# Altium schematic symbol library Resistance_Schlib.SchLib: 72 symbols
Pins are listed as number, name and electrical type; pins without a type are passive.

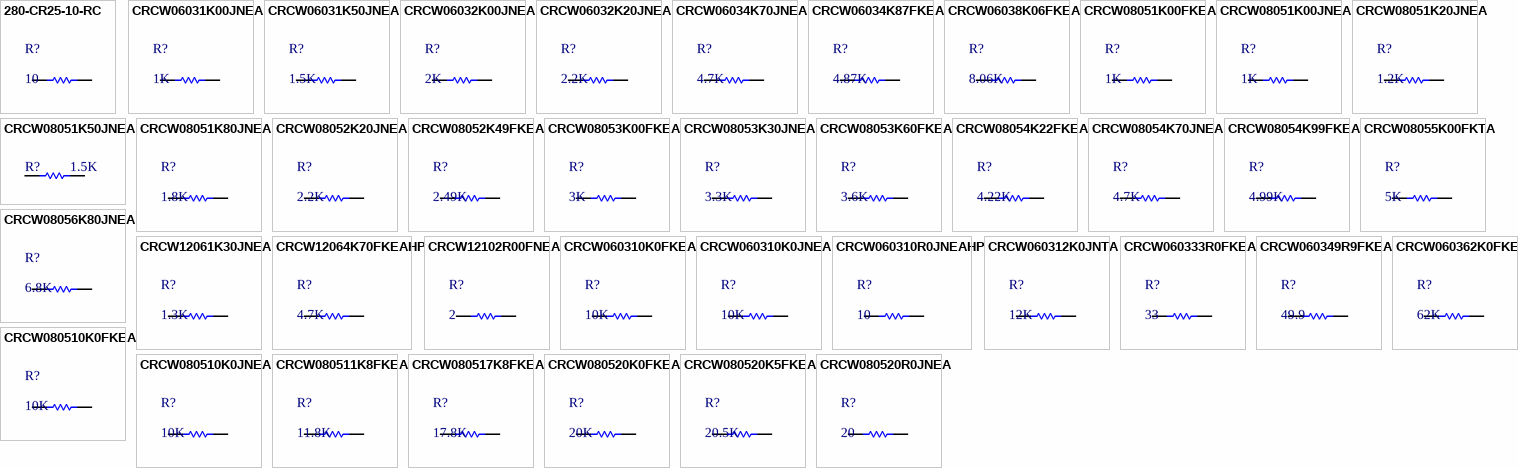
[diagram p0: symbols 280-CR25-10-RC to CRCW080520R0JNEA]

## 280-CR25-10-RC
designator R?, comment 10
線繞電阻器 - 透孔 10ohms 5% Tol 25W; 單價: 38.89; 製造商: Xicon; 代理商: mouser; 參考網站: http://www.mouser.tw/ProductDetail/Xicon/280-CR25-10-RC/?qs=sGAEpiMZZMtbXrIkmrvidNqDYkzv63xDPoVcgzNUNS0%3d; 資料手冊: http://www.mouser.com/ds/2/351/xicon_01272016_XC-600041-844471.pdf
footprint CR-25
pins: 1, 2

## CRCW06031K00JNEA
designator R?, comment 1K
厚膜電阻器 - 1K ohms 5% SMD 0603 1/10watt; 製造商: Vishay / Dale; 單價: 3.57; 代理商: mouser; 資料手冊: http://www.mouser.com/ds/2/427/dcrcwe3-109170.pdf; 參考網站: http://www.mouser.tw/ProductDetail/Vishay-Dale/CRCW06031K00JNEA/?qs=sGAEpiMZZMu61qfTUdNhG6VIbcZKTXAs3oFUk1Rmj2E%3d
footprint SMD 0603 Res (SMD 0603 電阻 1/10 (0.10))
pins: 1, 2

## CRCW06031K50JNEA
designator R?, comment 1.5K
厚膜電阻器 - 1.5K ohms 5% SMD 0603 1/10watt; 製造商: Vishay / Dale; 單價: 3.57; 代理商: mouser; 資料手冊: http://www.mouser.com/ds/2/427/dcrcwe3-109170.pdf; 參考網站: http://www.mouser.tw/ProductDetail/Vishay-Dale/CRCW06031K50JNEA/?qs=sGAEpiMZZMu61qfTUdNhG82Z6Ry1C7AqqcTNlUx7YuQ%3d
footprint SMD 0603 Res (SMD 0603 電阻 1/10 (0.10))
pins: 1, 2

## CRCW06032K00JNEA
designator R?, comment 2K
厚膜電阻器 - 2K ohms 5% SMD 0603 1/10watt; 製造商: Vishay / Dale; 單價: 3.57; 代理商: mouser; 資料手冊: http://www.mouser.com/ds/2/427/dcrcwe3-109170.pdf; 參考網站: http://www.mouser.tw/ProductDetail/Vishay-Dale/CRCW06032K00JNEA/?qs=sGAEpiMZZMu61qfTUdNhG2DpbjADlD3Gh%252beOru%252b7bZk%3d
footprint SMD 0603 Res (SMD 0603 電阻 1/10 (0.10))
pins: 1, 2

## CRCW06032K20JNEA
designator R?, comment 2.2K
厚膜電阻器 - 2.2K ohms 5% SMD 0603 1/10watt; 製造商: Vishay / Dale; 單價: 3.57; 代理商: mouser; 資料手冊: http://www.mouser.com/ds/2/427/dcrcwe3-109170.pdf; 參考網站: http://www.mouser.tw/ProductDetail/Vishay-Dale/CRCW06032K20JNEA/?qs=sGAEpiMZZMu61qfTUdNhG2DpbjADlD3Gdx0VB9GRU2U%3d
footprint SMD 0603 Res (SMD 0603 電阻 1/10 (0.10))
pins: 1, 2

## CRCW06034K70JNEA
designator R?, comment 4.7K
厚膜電阻器 - 4.7K ohms 5% SMD 0603 1/10watt; 製造商: Vishay / Dale; 單價: 3.57; 代理商: mouser; 資料手冊: http://www.mouser.com/ds/2/427/dcrcwe3-109170.pdf; 參考網站: http://www.mouser.tw/ProductDetail/Vishay-Dale/CRCW06034K70JNEA/?qs=sGAEpiMZZMu61qfTUdNhG2DpbjADlD3GM809i7E4nus%3d
footprint SMD 0603 Res (SMD 0603 電阻 1/10 (0.10))
pins: 1, 2

## CRCW06034K87FKEA
designator R?, comment 4.87K
厚膜電阻器 - 4.87K ohms 1% SMD 0603 1/10watt; 製造商: Vishay / Dale; 單價: 3.57; 代理商: mouser; 資料手冊: http://www.mouser.com/ds/2/427/dcrcwe3-109170.pdf; 參考網站: http://www.mouser.tw/ProductDetail/Vishay-Dale/CRCW06034K87FKEA/?qs=sGAEpiMZZMu61qfTUdNhG7Gzy2l2IcrzyD3DRfvVWTM%3d
footprint SMD 0603 Res (SMD 0603 電阻 1/10 (0.10))
pins: 1, 2

## CRCW06038K06FKEA
designator R?, comment 8.06K
厚膜電阻器 - 8.06K ohms 1% SMD 0603 1/10watt; 製造商: Vishay / Dale; 單價: 3.57; 代理商: mouser; 資料手冊: http://www.mouser.com/ds/2/427/dcrcwe3-109170.pdf; 參考網站: http://www.mouser.tw/ProductDetail/Vishay-Dale/CRCW06038K06FKEA/?qs=sGAEpiMZZMu61qfTUdNhG3XwnH6YDjgjWKqIV835bLQ%3d
footprint SMD 0603 Res (SMD 0603 電阻 1/10 (0.10))
pins: 1, 2

## CRCW08051K00FKEA
designator R?, comment 1K
厚膜電阻器 - 1K ohms 1% SMD 0805 1/8watt; 製造商: Vishay / Dale; 單價: 3.57; 代理商: mouser; 資料手冊: http://www.mouser.com/ds/2/427/dcrcwe3-109170.pdf; 參考網站: http://www.mouser.tw/ProductDetail/Vishay-Dale/CRCW08051K00JNEA/?qs=sGAEpiMZZMu61qfTUdNhG2DpbjADlD3G6P2hlKfR5ZA%3d
footprint SMD 0805 Res (SMD 0805 電阻 1/8 (0.125))
pins: 1, 2

## CRCW08051K00JNEA
designator R?, comment 1K
厚膜電阻器 - 1K ohms 5% SMD 0805 1/8watt; 製造商: Vishay / Dale; 單價: 3.57; 代理商: mouser; 資料手冊: http://www.mouser.com/ds/2/427/dcrcwe3-109170.pdf; 參考網站: http://www.mouser.tw/ProductDetail/Vishay-Dale/CRCW08051K00JNEA/?qs=sGAEpiMZZMu61qfTUdNhG2DpbjADlD3G6P2hlKfR5ZA%3d
footprint SMD 0805 Res (SMD 0805 電阻 1/8 (0.125))
pins: 1, 2

## CRCW08051K20JNEA
designator R?, comment 1.2K
厚膜電阻器 - 1.2K ohms 5% SMD 0805 1/8watt; 製造商: Vishay / Dale; 代理商: mouser; 單價: 3.57; 資料手冊: http://www.mouser.com/ds/2/427/dcrcwe3-109170.pdf; 參考網站: http://www.mouser.tw/ProductDetail/Vishay-Dale/CRCW08051K20JNEA/?qs=sGAEpiMZZMu61qfTUdNhG2DpbjADlD3G%252bKQuY8nNS1c%3d
footprint SMD 0805 Res (SMD 0805 電阻 1/8 (0.125))
pins: 1, 2

## CRCW08051K50JNEA
designator R?, comment 1.5K
厚膜電阻器 - 1.5K ohms 5% SMD 0805 1/8watt; 製造商: Vishay / Dale; 代理商: mouser; 單價: 3.57; 資料手冊: http://www.mouser.com/ds/2/427/dcrcwe3-109170.pdf; 參考網站: http://www.mouser.tw/ProductDetail/Vishay-Dale/CRCW08051K50JNEA/?qs=sGAEpiMZZMu61qfTUdNhG2DpbjADlD3GtpSFAMbjf5w%3d
footprint SMD 0805 Res (SMD 0805 電阻 1/8 (0.125))
pins: 1, 2

## CRCW08051K80JNEA
designator R?, comment 1.8K
厚膜電阻器 - 1.8K ohms 5% SMD 0805 1/8watt; 製造商: Vishay / Dale; 代理商: mouser; 單價: 3.57; 資料手冊: http://www.mouser.com/ds/2/427/dcrcwe3-109170.pdf; 參考網站: http://www.mouser.tw/ProductDetail/Vishay-Dale/CRCW08051K80JNEA/?qs=sGAEpiMZZMu61qfTUdNhG2DpbjADlD3Gr9Lb78Ti9KM%3d
footprint SMD 0805 Res (SMD 0805 電阻 1/8 (0.125))
pins: 1, 2

## CRCW08052K20JNEA
designator R?, comment 2.2K
厚膜電阻器 - 2.2K ohms 5% SMD 0805 1/8watt; 製造商: Vishay / Dale; 單價: 3.57; 代理商: mouser; 資料手冊: http://www.mouser.com/ds/2/427/dcrcwe3-109170.pdf; 參考網站: http://www.mouser.tw/ProductDetail/Vishay-Dale/CRCW08052K20JNEA/?qs=sGAEpiMZZMu61qfTUdNhG2DpbjADlD3GcOlEQFiYNsM%3d
footprint SMD 0805 Res (SMD 0805 電阻 1/8 (0.125))
pins: 1, 2

## CRCW08052K49FKEA
designator R?, comment 2.49K
厚膜電阻器 - 2.49K ohms 1% SMD 0805 1/8watt; 製造商: Vishay / Dale; 單價: 3.57; 代理商: mouser; 資料手冊: http://www.mouser.com/ds/2/427/dcrcwe3-109170.pdf; 參考網站: http://www.mouser.tw/ProductDetail/Vishay-Dale/CRCW08052K20JNEA/?qs=sGAEpiMZZMu61qfTUdNhG2DpbjADlD3GcOlEQFiYNsM%3d
footprint SMD 0805 Res (SMD 0805 電阻 1/8 (0.125))
pins: 1, 2

## CRCW08053K00FKEA
designator R?, comment 3K
厚膜電阻器 - 3K ohms 1% SMD 0805 1/8watt; 製造商: Vishay / Dale; 單價: 3.57; 代理商: mouser; 資料手冊: http://www.mouser.com/ds/2/427/dcrcwe3-109170.pdf; 參考網站: http://www.mouser.tw/ProductDetail/Vishay-Dale/CRCW08053K00FKEA/?qs=sGAEpiMZZMu61qfTUdNhG2DpbjADlD3GbsIqYIozJQs%3d
footprint SMD 0805 Res (SMD 0805 電阻 1/8 (0.125))
pins: 1, 2

## CRCW08053K30JNEA
designator R?, comment 3.3K
厚膜電阻器 - 3.3K ohms 5% SMD 0805 1/8watt; 製造商: Vishay / Dale; 代理商: mouser; 單價: 3.57; 資料手冊: http://www.mouser.com/ds/2/427/dcrcwe3-109170.pdf; 參考網站: http://www.mouser.tw/ProductDetail/Vishay-Dale/CRCW08053K30JNEA/?qs=sGAEpiMZZMu61qfTUdNhG2DpbjADlD3GQWTXHLPFrjo%3d
footprint SMD 0805 Res (SMD 0805 電阻 1/8 (0.125))
pins: 1, 2

## CRCW08053K60FKEA
designator R?, comment 3.6K
厚膜電阻器 - 3.6K ohms 1% SMD 0805 1/8watt; 製造商: Vishay / Dale; 代理商: mouser; 單價: 3.57; 資料手冊: http://www.mouser.com/ds/2/427/dcrcwe3-109170.pdf; 參考網站: http://www.mouser.tw/ProductDetail/Vishay-Dale/CRCW08053K60FKEA/?qs=sGAEpiMZZMu61qfTUdNhG2DpbjADlD3G%2fnt1A4sKG2M%3d
footprint SMD 0805 Res (SMD 0805 電阻 1/8 (0.125))
pins: 1, 2

## CRCW08054K22FKEA
designator R?, comment 4.22K
厚膜電阻器 - 4.22K ohms 1% SMD 0805 1/8watt; 製造商: Vishay / Dale; 單價: 3.57; 代理商: mouser; 資料手冊: http://www.mouser.com/ds/2/427/dcrcwe3-109170.pdf; 參考網站: http://www.mouser.tw/ProductDetail/Vishay-Dale/CRCW08054K22FKEA/?qs=sGAEpiMZZMu61qfTUdNhG2DpbjADlD3GWwbUhSTJWQk%3d
footprint SMD 0805 Res (SMD 0805 電阻 1/8 (0.125))
pins: 1, 2

## CRCW08054K70JNEA
designator R?, comment 4.7K
厚膜電阻器 - 4.7K ohms 5% SMD 0805 1/8watt; 製造商: Vishay / Dale; 單價: 3.57; 代理商: mouser; 資料手冊: http://www.mouser.com/ds/2/427/dcrcwe3-109170.pdf; 參考網站: http://www.mouser.tw/ProductDetail/Vishay-Dale/CRCW08054K70JNEA/?qs=sGAEpiMZZMu61qfTUdNhG2DpbjADlD3GU2sANMu5Tx0%3d
footprint SMD 0805 Res (SMD 0805 電阻 1/8 (0.125))
pins: 1, 2

## CRCW08054K99FKEA
designator R?, comment 4.99K
厚膜電阻器 - 4.99K ohms 1% SMD 0805 1/8watt; 製造商: Vishay / Dale; 代理商: mouser; 單價: 3.57; 資料手冊: http://www.mouser.com/ds/2/427/dcrcwe3-109170.pdf; 參考網站: http://www.mouser.tw/ProductDetail/Vishay-Dale/CRCW08054K99FKEA/?qs=sGAEpiMZZMtG0KNrPCHnjUwx9ESGNTAnHzupRcPQbAI%3d
footprint SMD 0805 Res (SMD 0805 電阻 1/8 (0.125))
pins: 1, 2

## CRCW08055K00FKTA
designator R?, comment 5K
厚膜電阻器 - 5K ohms 1% SMD 0805 1/8watt; 製造商: Vishay / Dale; 代理商: mouser; 單價: 5; 資料手冊: http://www.mouser.com/ds/2/427/dcrcwe3-109170.pdf; 參考網站: http://www.mouser.tw/ProductDetail/Vishay-Dale/CRCW08055K00FKTA/?qs=sGAEpiMZZMu61qfTUdNhG%2ff3bTMUaktNrtkiTCRtSq8%3d
footprint SMD 0805 Res (SMD 0805 電阻 1/8 (0.125))
pins: 1, 2

## CRCW08056K80JNEA
designator R?, comment 6.8K
厚膜電阻器 - 6.8K ohms 5% SMD 0805 1/8watt; 製造商: Vishay / Dale; 代理商: mouser; 單價: 3.57; 資料手冊: http://www.mouser.com/ds/2/427/dcrcwe3-109170.pdf; 參考網站: http://www.mouser.tw/ProductDetail/Vishay-Dale/CRCW08056K80JNEA/?qs=sGAEpiMZZMu61qfTUdNhG2DpbjADlD3G%252buYkN0MIV04%3d
footprint SMD 0805 Res (SMD 0805 電阻 1/8 (0.125))
pins: 1, 2

## CRCW12061K30JNEA
designator R?, comment 1.3K
厚膜電阻器 - 1.3K ohms 5% SMD 1206 1/2watt; 製造商: Vishay / Dale; 單價: 3.57; 代理商: mouser; 資料手冊: http://www.mouser.com/ds/2/427/dcrcwe3-109170.pdf; 參考網站: http://www.mouser.tw/ProductDetail/Vishay-Dale/CRCW12061K30JNEA/?qs=sGAEpiMZZMu61qfTUdNhG6VIbcZKTXAsQw6bl4gZ3Fo%3d
footprint SMD 1206 Res (SMD 1206 電阻 1/4 (0.25) W)
pins: 1, 2

## CRCW12064K70FKEAHP
designator R?, comment 4.7K
厚膜電阻器 - 4.7K ohms 1% SMD 1206 1/2watt; 製造商: Vishay / Dale; 單價: 16.06; 代理商: mouser; 資料手冊: http://www.mouser.com/ds/2/427/dcrcwe3-109170.pdf; 參考網站: http://www.mouser.tw/ProductDetail/Vishay-Dale/CRCW12064K70FKEAHP/?qs=sGAEpiMZZMu61qfTUdNhG9YJum83zc0Dgd79Qquz0l0%3d
footprint SMD 1206 Res (SMD 1206 電阻 1/4 (0.25) W)
pins: 1, 2

## CRCW12102R00FNEA
designator R?, comment 2
厚膜電阻器 - 2 ohms 1% SMD 1210 1/2watt; 製造商: Vishay / Dale; 單價: 12.84; 代理商: mouser; 資料手冊: http://www.mouser.com/ds/2/427/dcrcwe3-109170.pdf; 參考網站: http://www.mouser.tw/ProductDetail/Vishay-Dale/CRCW12102R00FNEA/?qs=sGAEpiMZZMu61qfTUdNhGxpod03iTunH8op8QxtGDu0%3d
footprint SMD 2010 Res (SMD 2010 電阻 1/2 (0.50))
pins: 1, 2

## CRCW060310K0FKEA
designator R?, comment 10K
厚膜電阻器 - 10K ohms 1% SMD 0603 1/10watt; 製造商: Vishay / Dale; 單價: 3.57; 代理商: mouser; 資料手冊: http://www.mouser.com/ds/2/427/dcrcwe3-109170.pdf; 參考網站: http://www.mouser.tw/ProductDetail/Vishay-Dale/CRCW060310K0FKEA/?qs=sGAEpiMZZMu61qfTUdNhGyptJL5EcUtREGTsEKG7Lak%3d
footprint SMD 0603 Res (SMD 0603 電阻 1/10 (0.10))
pins: 1, 2

## CRCW060310K0JNEA
designator R?, comment 10K
厚膜電阻器 - 10K ohms 5% SMD 0603 1/10watt; 製造商: Vishay / Dale; 單價: 3.57; 代理商: mouser; 資料手冊: http://www.mouser.com/ds/2/427/dcrcwe3-109170.pdf; 參考網站: http://www.mouser.tw/ProductDetail/Vishay-Dale/CRCW060310K0JNEA/?qs=sGAEpiMZZMu61qfTUdNhG%2fEx4adfNLScijTXbM5aXyk%3d
footprint SMD 0603 Res (SMD 0603 電阻 1/10 (0.10))
pins: 1, 2

## CRCW060310R0JNEAHP
designator R?, comment 10
厚膜電阻器 - 10 ohms 5% SMD 0603 1/10watt; 製造商: Vishay / Dale; 單價: 6.47; 代理商: mouser; 資料手冊: http://www.mouser.com/ds/2/427/dcrcwe3-109170.pdf; 參考網站: http://www.mouser.tw/ProductDetail/Vishay-Dale/CRCW060310R0JNEAHP/?qs=sGAEpiMZZMu61qfTUdNhG9YJum83zc0DpipSnzGo878%3d
footprint SMD 0603 Res (SMD 0603 電阻 1/10 (0.10))
pins: 1, 2

## CRCW060312K0JNTA
designator R?, comment 12K
厚膜電阻器 - 12K ohms 5% SMD 0603 1/10watt; 製造商: Vishay / Dale; 單價: 4.64; 代理商: mouser; 資料手冊: http://www.mouser.com/ds/2/427/dcrcwe3-109170.pdf; 參考網站: http://www.mouser.tw/ProductDetail/Vishay-Dale/CRCW060312K0JNTA/?qs=sGAEpiMZZMu61qfTUdNhGwyN077O4KhFBqRFUUonGjw%3d
footprint SMD 0603 Res (SMD 0603 電阻 1/10 (0.10))
pins: 1, 2

## CRCW060333R0FKEA
designator R?, comment 33
厚膜電阻器 - 33 ohms 5% SMD 0603 1/10watt; 製造商: Vishay / Dale; 單價: 3.57; 代理商: mouser; 資料手冊: http://www.mouser.com/ds/2/427/dcrcwe3-109170.pdf; 參考網站: http://www.mouser.tw/ProductDetail/Vishay-Dale/CRCW060333R0FKEA/?qs=sGAEpiMZZMu61qfTUdNhG2TmlP6XIPVRkITEYZC94rI%3d
footprint SMD 0603 Res (SMD 0603 電阻 1/10 (0.10))
pins: 1, 2

## CRCW060349R9FKEA
designator R?, comment 49.9
厚膜電阻器 - 49.9 ohms 1% SMD 0603 1/10watt; 製造商: Vishay / Dale; 單價: 3.57; 代理商: mouser; 資料手冊: http://www.mouser.com/ds/2/427/dcrcwe3-109170.pdf; 參考網站: http://www.mouser.tw/ProductDetail/Vishay-Dale/CRCW060349R9FKEA/?qs=sGAEpiMZZMu61qfTUdNhG3XwnH6YDjgjmtala9gOlok%3d
footprint SMD 0603 Res (SMD 0603 電阻 1/10 (0.10))
pins: 1, 2

## CRCW060362K0FKEA
designator R?, comment 62K
厚膜電阻器 - 62K ohms 1% SMD 0603 1/10watt; 製造商: Vishay / Dale; 單價: 3.57; 代理商: mouser; 資料手冊: http://www.mouser.com/ds/2/427/dcrcwe3-109170.pdf; 參考網站: http://www.mouser.tw/ProductDetail/Vishay-Dale/CRCW060362K0FKEA/?qs=sGAEpiMZZMu61qfTUdNhG3XwnH6YDjgj9UIRHm%252bhGM0%3d
footprint SMD 0603 Res (SMD 0603 電阻 1/10 (0.10))
pins: 1, 2

## CRCW080510K0FKEA
designator R?, comment 10K
厚膜電阻器 - 10K ohms 1% SMD 0805 1/8watt; 製造商: Vishay / Dale; 單價: 3.57; 代理商: mouser; 資料手冊: http://www.mouser.com/ds/2/427/dcrcwe3-109170.pdf; 參考網站: http://www.mouser.tw/ProductDetail/Vishay-Dale/CRCW080510K0FKEA/?qs=sGAEpiMZZMu61qfTUdNhG2DpbjADlD3GOIdKSeOTyFU%3d
footprint SMD 0805 Res (SMD 0805 電阻 1/8 (0.125))
pins: 1, 2

## CRCW080510K0JNEA
designator R?, comment 10K
厚膜電阻器 - 10K ohms 5% SMD 0805 1/8watt; 製造商: Vishay / Dale; 單價: 3.57; 代理商: mouser; 資料手冊: http://www.mouser.com/ds/2/427/dcrcwe3-109170.pdf; 參考網站: http://www.mouser.tw/ProductDetail/Vishay-Dale/CRCW080510K0JNEA/?qs=sGAEpiMZZMu61qfTUdNhG2DpbjADlD3G7HGBoM9TRSM%3d
footprint SMD 0805 Res (SMD 0805 電阻 1/8 (0.125))
pins: 1, 2

## CRCW080511K8FKEA
designator R?, comment 11.8K
厚膜電阻器 - 11.8K ohms 1% SMD 0805 1/8watt; 製造商: Vishay / Dale; 單價: 3.57; 代理商: mouser; 資料手冊: http://www.mouser.com/ds/2/427/dcrcwe3-109170.pdf; 參考網站: http://www.mouser.tw/ProductDetail/Vishay-Dale/CRCW080511K8FKEA/?qs=sGAEpiMZZMu61qfTUdNhG2DpbjADlD3GmXp1kTb%2fJfo%3d
footprint SMD 0805 Res (SMD 0805 電阻 1/8 (0.125))
pins: 1, 2

## CRCW080517K8FKEA
designator R?, comment 17.8K
厚膜電阻器 - 17.8K ohms 1% SMD 0805 1/8watt; 製造商: Vishay / Dale; 單價: 3.57; 代理商: mouser; 資料手冊: http://www.mouser.com/ds/2/427/dcrcwe3-109170.pdf; 參考網站: http://www.mouser.tw/ProductDetail/Vishay-Dale/CRCW080517K8FKEA/?qs=sGAEpiMZZMu61qfTUdNhG2DpbjADlD3GgtK8x6ToUOw%3d
footprint SMD 0805 Res (SMD 0805 電阻 1/8 (0.125))
pins: 1, 2

## CRCW080520K0FKEA
designator R?, comment 20K
厚膜電阻器 - 20K ohms 1% SMD 0805 1/8watt; 製造商: Vishay / Dale; 單價: 3.57; 代理商: mouser; 資料手冊: http://www.mouser.com/ds/2/427/dcrcwe3-109170.pdf; 參考網站: http://www.mouser.tw/ProductDetail/Vishay-Dale/CRCW080520K0FKEA/?qs=sGAEpiMZZMu61qfTUdNhG2DpbjADlD3GxAG2zkm0%2fSA%3d
footprint SMD 0805 Res (SMD 0805 電阻 1/8 (0.125))
pins: 1, 2

## CRCW080520K5FKEA
designator R?, comment 20.5K
厚膜電阻器 - 20.5K ohms 1% SMD 0805 1/8watt; 製造商: Vishay / Dale; 單價: 3.57; 代理商: mouser; 資料手冊: http://www.mouser.com/ds/2/427/dcrcwe3-109170.pdf; 參考網站: http://www.mouser.tw/ProductDetail/Vishay-Dale/CRCW080520K5FKEA/?qs=sGAEpiMZZMu61qfTUdNhG2DpbjADlD3G0mbpBrElepE%3d
footprint SMD 0805 Res (SMD 0805 電阻 1/8 (0.125))
pins: 1, 2

## CRCW080520R0JNEA
designator R?, comment 20
厚膜電阻器 - 20 ohms 5% SMD 0805 1/8watt; 製造商: Vishay / Dale; 單價: 3.57; 代理商: mouser; 資料手冊: http://www.mouser.com/ds/2/427/dcrcwe3-109170.pdf; 參考網站: http://www.mouser.tw/ProductDetail/Vishay-Dale/CRCW080520R0JNEA/?qs=sGAEpiMZZMu61qfTUdNhG2DpbjADlD3G4zKUHLjiksA%3d
footprint SMD 0805 Res (SMD 0805 電阻 1/8 (0.125))
pins: 1, 2

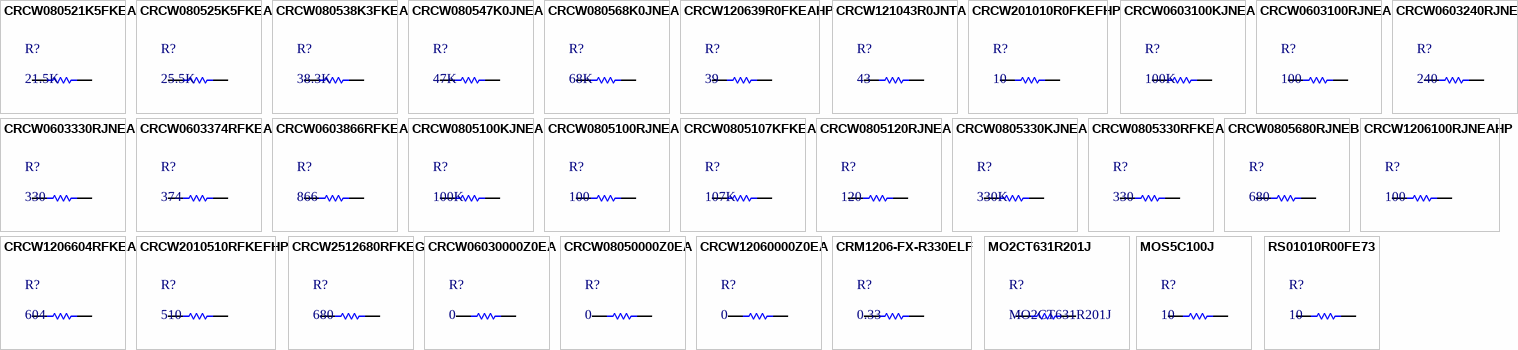
[diagram p1: symbols CRCW080521K5FKEA to RS01010R00FE73]

## CRCW080521K5FKEA
designator R?, comment 21.5K
厚膜電阻器 - 21.5K ohms 1% SMD 0805 1/8watt; 製造商: Vishay / Dale; 單價: 3.57; 代理商: mouser; 資料手冊: http://www.mouser.com/ds/2/427/dcrcwe3-109170.pdf; 參考網站: http://www.mouser.tw/ProductDetail/Vishay-Dale/CRCW080521K5FKEA/?qs=sGAEpiMZZMu61qfTUdNhG6WSjU5e4eCuPt3ITtxMxrU%3d
footprint SMD 0805 Res (SMD 0805 電阻 1/8 (0.125))
pins: 1, 2

## CRCW080525K5FKEA
designator R?, comment 25.5K
厚膜電阻器 - 25.5K ohms 1% SMD 0805 1/8watt; 製造商: Vishay / Dale; 單價: 3.57; 代理商: mouser; 資料手冊: http://www.mouser.com/ds/2/427/dcrcwe3-109170.pdf; 參考網站: http://www.mouser.tw/ProductDetail/Vishay-Dale/CRCW080525K5FKEA/?qs=sGAEpiMZZMu61qfTUdNhG2DpbjADlD3G%2fgXP8xryITY%3d
footprint SMD 0805 Res (SMD 0805 電阻 1/8 (0.125))
pins: 1, 2

## CRCW080538K3FKEA
designator R?, comment 38.3K
厚膜電阻器 - 38.3K ohms 1% SMD 0805 1/8watt; 製造商: Vishay / Dale; 單價: 3.57; 代理商: mouser; 資料手冊: http://www.mouser.com/ds/2/427/dcrcwe3-109170.pdf; 參考網站: http://www.mouser.tw/ProductDetail/Vishay-Dale/CRCW080538K3FKEA/?qs=sGAEpiMZZMu61qfTUdNhG2DpbjADlD3GGphZoH1nDyY%3d
footprint SMD 0805 Res (SMD 0805 電阻 1/8 (0.125))
pins: 1, 2

## CRCW080547K0JNEA
designator R?, comment 47K
厚膜電阻器 - 47K ohms 5% SMD 0805 1/8watt; 製造商: Vishay / Dale; 代理商: mouser; 單價: 3.57; 資料手冊: http://www.mouser.com/ds/2/427/dcrcwe3-109170.pdf; 參考網站: http://www.mouser.tw/ProductDetail/Vishay-Dale/CRCW080547K0JNEA/?qs=sGAEpiMZZMu61qfTUdNhG2DpbjADlD3GF8pTBMZU8Bk%3d
footprint SMD 0805 Res (SMD 0805 電阻 1/8 (0.125))
pins: 1, 2

## CRCW080568K0JNEA
designator R?, comment 68K
厚膜電阻器 - 68K ohms 5% SMD 0805 1/8watt; 製造商: Vishay / Dale; 單價: 3.57; 代理商: mouser; 資料手冊: http://www.mouser.com/ds/2/427/dcrcwe3-109170.pdf; 參考網站: http://www.mouser.tw/ProductDetail/Vishay-Dale/CRCW080568K0JNEA/?qs=sGAEpiMZZMu61qfTUdNhG2DpbjADlD3GDD9q6ztExiw%3d
footprint SMD 0805 Res (SMD 0805 電阻 1/8 (0.125))
pins: 1, 2

## CRCW120639R0FKEAHP
designator R?, comment 39
厚膜電阻器 - 39 ohms 1% SMD 1206 1/2watt; 製造商: Vishay / Dale; 單價: 16.77; 代理商: mouser; 資料手冊: http://www.mouser.com/ds/2/427/dcrcwe3-109170.pdf; 參考網站: http://www.mouser.tw/ProductDetail/Vishay-Dale/CRCW120639R0FKEAHP/?qs=sGAEpiMZZMu61qfTUdNhG4JucpvLNRyOuTfZcYN4dmvH21I00QhQKA%3d%3d
footprint SMD 1206 Res (SMD 1206 電阻 1/4 (0.25) W)
pins: 1, 2

## CRCW121043R0JNTA
designator R?, comment 43
厚膜電阻器 - 43 ohms 5% SMD 1210 1/2watt; 製造商: Vishay / Dale; 單價: 12.84; 代理商: mouser; 資料手冊: http://www.mouser.com/ds/2/427/dcrcwe3-109170.pdf; 參考網站: http://www.mouser.tw/ProductDetail/Vishay-Dale/CRCW121043R0JNTA/?qs=sGAEpiMZZMu61qfTUdNhGwyN077O4KhFrSvWK1%252b6V4A%3d
footprint SMD 2010 Res (SMD 2010 電阻 1/2 (0.50))
pins: 1, 2

## CRCW201010R0FKEFHP
designator R?, comment 10
厚膜電阻器 - 10 ohms 1% SMD 2010 1watt; 製造商: Vishay / Dale; 代理商: mouser; 單價: 44.6; 資料手冊: http://www.mouser.com/ds/2/427/dcrcwe3-109170.pdf; 參考網站: http://www.mouser.tw/ProductDetail/Vishay-Dale/CRCW201010R0FKEFHP/?qs=sGAEpiMZZMu61qfTUdNhG07zf71rZNSm5Ye6dWxsX8I%3d
footprint SMD 2010 Res (SMD 2010 電阻 1/2 (0.50))
pins: 1, 2

## CRCW0603100KJNEA
designator R?, comment 100K
厚膜電阻器 - 100K ohms 5% SMD 0603 1/10watt; 製造商: Vishay / Dale; 單價: 3.57; 代理商: mouser; 資料手冊: http://www.mouser.com/ds/2/427/dcrcwe3-109170.pdf; 參考網站: http://www.mouser.tw/ProductDetail/Vishay-Dale/CRCW0603100KJNEA/?qs=sGAEpiMZZMu61qfTUdNhG81cCdSy9Sej9ZOy%252btwOf%252bc%3d
footprint SMD 0603 Res (SMD 0603 電阻 1/10 (0.10))
pins: 1, 2

## CRCW0603100RJNEA
designator R?, comment 100
厚膜電阻器 - 100 ohms 5% SMD 0603 1/10watt; 製造商: Vishay / Dale; 單價: 3.57; 代理商: mouser; 資料手冊: http://www.mouser.com/ds/2/427/dcrcwe3-109170.pdf; 參考網站: http://www.mouser.tw/ProductDetail/Vishay-Dale/CRCW0603100RJNEA/?qs=sGAEpiMZZMu61qfTUdNhG2DpbjADlD3Gwi%252bkMF7X7ZM%3d
footprint SMD 0603 Res (SMD 0603 電阻 1/10 (0.10))
pins: 1, 2

## CRCW0603240RJNEA
designator R?, comment 240
厚膜電阻器 - 240 ohms 5% SMD 0603 1/10watt; 製造商: Vishay / Dale; 單價: 3.57; 代理商: mouser; 資料手冊: http://www.mouser.com/ds/2/427/dcrcwe3-109170.pdf; 參考網站: http://www.mouser.tw/ProductDetail/Vishay-Dale/CRCW0603240RJNEA/?qs=sGAEpiMZZMu61qfTUdNhG82Z6Ry1C7AqLoseH54aeDg%3d
footprint SMD 0603 Res (SMD 0603 電阻 1/10 (0.10))
pins: 1, 2

## CRCW0603330RJNEA
designator R?, comment 330
厚膜電阻器 - 330 ohms 5% SMD 0603 1/10watt; 製造商: Vishay / Dale; 單價: 3.57; 代理商: mouser; 資料手冊: http://www.mouser.com/ds/2/427/dcrcwe3-109170.pdf; 參考網站: http://www.mouser.tw/ProductDetail/Vishay-Dale/CRCW0603330RJNEA/?qs=sGAEpiMZZMu61qfTUdNhG2DpbjADlD3GBCMU0OHnL9c%3d
footprint SMD 0603 Res (SMD 0603 電阻 1/10 (0.10))
pins: 1, 2

## CRCW0603374RFKEA
designator R?, comment 374
厚膜電阻器 - 374 ohms 1% SMD 0603 1/10watt; 製造商: Vishay / Dale; 單價: 3.57; 代理商: mouser; 資料手冊: http://www.mouser.com/ds/2/427/dcrcwe3-109170.pdf; 參考網站: http://www.mouser.tw/ProductDetail/Vishay-Dale/CRCW0603374RFKEA/?qs=sGAEpiMZZMu61qfTUdNhGyptJL5EcUtRpd%2fhDkjaK64%3d
footprint SMD 0603 Res (SMD 0603 電阻 1/10 (0.10))
pins: 1, 2

## CRCW0603866RFKEA
designator R?, comment 866
厚膜電阻器 - 866 ohms 1% SMD 0603 1/10watt; 製造商: Vishay / Dale; 單價: 3.57; 代理商: mouser; 資料手冊: http://www.mouser.com/ds/2/427/dcrcwe3-109170.pdf; 參考網站: http://www.mouser.tw/ProductDetail/Vishay-Dale/CRCW0603866RFKEA/?qs=sGAEpiMZZMu61qfTUdNhGyptJL5EcUtRI8jjLYPniKY%3d
footprint SMD 0603 Res (SMD 0603 電阻 1/10 (0.10))
pins: 1, 2

## CRCW0805100KJNEA
designator R?, comment 100K
厚膜電阻器 - 100K ohms 5% SMD 0805 1/8watt; 製造商: Vishay / Dale; 單價: 3.57; 代理商: mouser; 資料手冊: http://www.mouser.com/ds/2/427/dcrcwe3-109170.pdf; 參考網站: http://www.mouser.tw/ProductDetail/Vishay-Dale/CRCW0805100KJNEA/?qs=sGAEpiMZZMu61qfTUdNhG2DpbjADlD3GhKfkPLRGIEY%3d
footprint SMD 0805 Res (SMD 0805 電阻 1/8 (0.125))
pins: 1, 2

## CRCW0805100RJNEA
designator R?, comment 100
厚膜電阻器 - 100 ohms 5% SMD 0805 1/8watt; 製造商: Vishay / Dale; 代理商: mouser; 單價: 3.57; 資料手冊: http://www.mouser.com/ds/2/427/dcrcwe3-109170.pdf; 參考網站: http://www.mouser.tw/ProductDetail/Vishay-Dale/CRCW0805100RJNEA/?qs=sGAEpiMZZMu61qfTUdNhG2DpbjADlD3GLE%252btz41kY1I%3d
footprint SMD 0805 Res (SMD 0805 電阻 1/8 (0.125))
pins: 1, 2

## CRCW0805107KFKEA
designator R?, comment 107K
厚膜電阻器 - 107K ohms 1% SMD 0805 1/8watt; 製造商: Vishay / Dale; 單價: 3.57; 代理商: mouser; 資料手冊: http://www.mouser.com/ds/2/427/dcrcwe3-109170.pdf; 參考網站: http://www.mouser.tw/ProductDetail/Vishay-Dale/CRCW08054K22FKEA/?qs=sGAEpiMZZMu61qfTUdNhG2DpbjADlD3GWwbUhSTJWQk%3d
footprint SMD 0805 Res (SMD 0805 電阻 1/8 (0.125))
pins: 1, 2

## CRCW0805120RJNEA
designator R?, comment 120
厚膜電阻器 - 120 ohms 5% SMD 0805 1/8watt; 製造商: Vishay / Dale; 單價: 3.57; 代理商: mouser; 資料手冊: http://www.mouser.com/ds/2/427/dcrcwe3-109170.pdf; 參考網站: http://www.mouser.tw/ProductDetail/Vishay-Dale/CRCW0805120RJNEA/?qs=sGAEpiMZZMu61qfTUdNhG2DpbjADlD3GyuFyxHysYO8%3d
footprint SMD 0805 Res (SMD 0805 電阻 1/8 (0.125))
pins: 1, 2

## CRCW0805330KJNEA
designator R?, comment 330K
厚膜電阻器 - 330K ohms 5% SMD 0805 1/8watt; 製造商: Vishay / Dale; 單價: 3.57; 代理商: mouser; 資料手冊: http://www.mouser.com/ds/2/427/dcrcwe3-109170.pdf; 參考網站: http://www.mouser.tw/ProductDetail/Vishay-Dale/CRCW0805330KJNEA/?qs=sGAEpiMZZMu61qfTUdNhG2DpbjADlD3GvM4n2Jkg2m8%3d
footprint SMD 0805 Res (SMD 0805 電阻 1/8 (0.125))
pins: 1, 2

## CRCW0805330RFKEA
designator R?, comment 330
厚膜電阻器 - 330 ohms 1% SMD 0805 1/8watt; 製造商: Vishay / Dale; 單價: 3.57; 代理商: mouser; 資料手冊: http://www.mouser.com/ds/2/427/dcrcwe3-109170.pdf; 參考網站: http://www.mouser.tw/ProductDetail/Vishay-Dale/CRCW0805330RFKEA/?qs=sGAEpiMZZMu61qfTUdNhG2DpbjADlD3GYBNWWdCdsZ0%3d
footprint SMD 0805 Res (SMD 0805 電阻 1/8 (0.125))
pins: 1, 2

## CRCW0805680RJNEB
designator R?, comment 680
厚膜電阻器 - 680 ohms 5% SMD 0805 1/8watt; 製造商: Vishay / Dale; 代理商: mouser; 單價: 3.57; 資料手冊: http://www.mouser.com/ds/2/427/dcrcwe3-109170.pdf; 參考網站: http://www.mouser.tw/ProductDetail/Vishay-Dale/CRCW0805680RJNEB/?qs=sGAEpiMZZMu61qfTUdNhG2DpbjADlD3GxyaVF45DuMc%3d
footprint SMD 0805 Res (SMD 0805 電阻 1/8 (0.125))
pins: 1, 2

## CRCW1206100RJNEAHP
designator R?, comment 100
厚膜電阻器 - 100 ohms 5% SMD 1206 1/2watt; 製造商: Vishay / Dale; 單價: 16.77; 代理商: mouser; 資料手冊: http://www.mouser.com/ds/2/427/dcrcwe3-109170.pdf; 參考網站: http://www.mouser.tw/ProductDetail/Vishay-Dale/CRCW1206100RJNEAHP/?qs=sGAEpiMZZMu61qfTUdNhG9YJum83zc0DNhNzRkOZhlw%3d
footprint SMD 1206 Res (SMD 1206 電阻 1/4 (0.25) W)
pins: 1, 2

## CRCW1206604RFKEA
designator R?, comment 604
厚膜電阻器 - 604 ohms 1% SMD 1206 1/2watt; 製造商: Vishay / Dale; 單價: 3.57; 代理商: mouser; 資料手冊: http://www.mouser.com/ds/2/427/dcrcwe3-109170.pdf; 參考網站: http://www.mouser.tw/ProductDetail/Vishay-Dale/CRCW1206604RFKEA/?qs=sGAEpiMZZMu61qfTUdNhG2DpbjADlD3Gp7foVcEKYvo%3d
footprint SMD 0805 Res (SMD 0805 電阻 1/8 (0.125))
pins: 1, 2

## CRCW2010510RFKEFHP
designator R?, comment 510
厚膜電阻器 - 510 ohms 1% SMD 2010 1/2watt; 製造商: Vishay / Dale; 單價: 3.57; 代理商: mouser; 資料手冊: http://www.mouser.com/ds/2/427/dcrcwe3-109170.pdf; 參考網站: http://www.mouser.tw/ProductDetail/Vishay/CRCW2010510RFKEFHP/?qs=k2%2fDWSARqgHFOa%252bvpQfa0w%3d%3d
footprint SMD 2010 Res (SMD 2010 電阻 1/2 (0.50))
pins: 1, 2

## CRCW2512680RFKEG
designator R?, comment 680
厚膜電阻器 - 680 ohms 1% SMD 2512 1watt; 製造商: Vishay / Dale; 單價: 14.27; 代理商: mouser; 資料手冊: http://www.mouser.com/ds/2/427/dcrcwe3-109170.pdf; 參考網站: http://www.mouser.tw/ProductDetail/Vishay-Dale/CRCW2512680RFKEG/?qs=sGAEpiMZZMu61qfTUdNhG2sc57DNpdF2OtJLhbscj9o%3d
footprint SMD 2512 Res (SMD 2512 電阻 1W)
pins: 1, 2

## CRCW06030000Z0EA
designator R?, comment 0
厚膜電阻器 - 0 ohms SMD 0603 1/10watt; 製造商: Vishay / Dale; 單價: 3.57; 代理商: mouser; 資料手冊: http://www.mouser.com/ds/2/427/dcrcwe3-109170.pdf; 參考網站: http://www.mouser.tw/ProductDetail/Vishay-Dale/CRCW06030000Z0EA/?qs=sGAEpiMZZMu61qfTUdNhG2TmlP6XIPVRieH8x37lMMI%3d
footprint SMD 0603 Res (SMD 0603 電阻 1/10 (0.10))
pins: 1, 2

## CRCW08050000Z0EA
designator R?, comment 0
厚膜電阻器 - 0 ohms 1% 100ppm SMD 0805 1/8watt; 製造商: Vishay / Dale; 代理商: mouser; 單價: 3.57; 資料手冊: http://www.mouser.com/ds/2/427/dcrcwe3-109170.pdf; 參考網站: http://www.mouser.tw/Search/ProductDetail.aspx?qs=DZvKvnD5UYU3bClwFPa9DQ%3d%3d
footprint SMD 0805 Res (SMD 0805 電阻 1/8 (0.125))
pins: 1, 2

## CRCW12060000Z0EA
designator R?, comment 0
厚膜電阻器 - 0 ohms SMD 1206 1/4watt; 製造商: Vishay / Dale; 單價: 3.57; 代理商: mouser; 資料手冊: http://www.mouser.com/ds/2/427/dcrcwe3-109170.pdf; 參考網站: http://www.mouser.tw/ProductDetail/Vishay-Dale/CRCW12060000Z0EA/?qs=sGAEpiMZZMu61qfTUdNhG2DpbjADlD3Gym9mpoUBVBI%3d
footprint SMD 1206 Res (SMD 1206 電阻 1/4 (0.25) W)
pins: 1, 2

## CRM1206-FX-R330ELF
designator R?, comment 0.33
厚膜電阻器 - 0.33 ohms 1% SMD 1206 1/2watt; 製造商: Bourns; 單價: 3.57; 代理商: mouser; 資料手冊: http://www.mouser.com/ds/2/54/RM0805_1206_2010-777409.pdf; 參考網站: http://www.mouser.tw/ProductDetail/Bourns/CRM1206-FX-R330ELF/?qs=sGAEpiMZZMu61qfTUdNhG7S%2f3VpcT606o%252b0YfqN%2fgZ4%3d
footprint SMD 1206 Res (SMD 1206 電阻 1/4 (0.25) W)
pins: 1, 2

## MO2CT631R201J
designator R?
金屬氧化物電阻器 2W 200 5%, Type MO2; 製造商: KOA Speer; 單價: 5; 代理商: mouser; 資料手冊: http://www.mouser.com/ds/2/219/MO-243137.pdf; 參考網站: http://www.mouser.tw/ProductDetail/KOA-Speer/MO2CT631R201J/?qs=sGAEpiMZZMtlubZbdhIBIAOB9HwKwu9VmTRXVgIp5x0%3d
footprint DIP-MO2
pins: 1, 2

## MOS5C100J
designator R?, comment 10
金屬氧化物電阻器 5W 10 5%, Type MO2; 製造商: KOA Speer; 單價: 37.11; 代理商: mouser; 資料手冊: http://www.mouser.com/ds/2/219/MOS-16613.pdf; 參考網站: http://www.mouser.tw/ProductDetail/KOA-Speer/MOS5C100J/?qs=sGAEpiMZZMvmQ%252bOLa8n%2fM5X5HGMinnVRJv2NzgvPJXI%3d
footprint DIP-MO5 (5W 電阻使用)
pins: 1, 2

## RS01010R00FE73
designator R?, comment 10
線繞電阻器 - 透孔 10watts 10ohms 1%; 製造商: Vishay / Dale; 單價: 58.16; 代理商: mouser; 參考網站: http://www.mouser.tw/ProductDetail/Vishay-Dale/RS01010R00FE73/?qs=sGAEpiMZZMtbXrIkmrvidDdY%2fwKIbxTCa91r2kf6GjY%3d; 資料手冊: http://www.mouser.com/ds/2/427/rsns-226497.pdf
footprint RS010 (Vishay / Dale 10W)
pins: 1, 2